# Altium footprint library 470uf.PcbLib: 1 footprints
Each footprint in its own frame and in the unit in brackets; x right, y up, seen from the top. Pads: shape width x height; smd on the part's side, far side on the other; paste and mask are expansions set on the pad; w line width, h text height; cw(c..) or ccw(c..) is an arc to the next point about the centre after c.
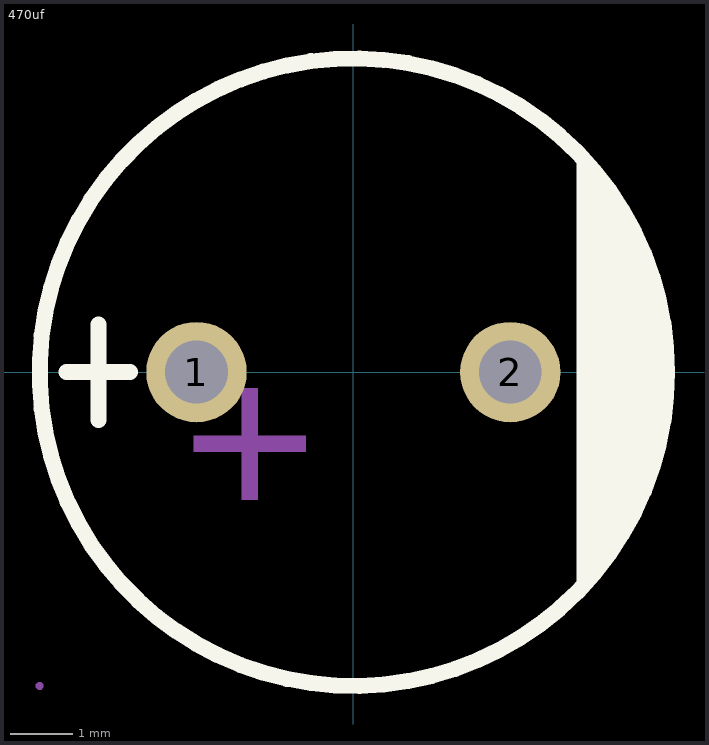
[diagram p0: the footprint, top view; thin cyan lines are the x and y axes]

## 470uf [mm]
pads (2):
  round 1.6 hole 1: 1(-2.5,0) 2(2.5,0)
Top Overlay:
  circle w0.254: c0,0 r5
  region: 3.556,3.556 3.556,-3.556 4.318,-2.54 4.826,-1.016 5.08,0.508 4.826,1.524
  lines w0.254: -4.572,0 -3.556,0 ; -4.064,-0.762 -4.064,0.762
Mechanical 6:
  region: -1.778,-0.762 -1.778,-2.032 -1.524,-2.032 -1.524,-0.254 -1.778,-0.254
  region: -2.54,-1.016 -0.762,-1.016 -0.762,-1.27 -2.54,-1.27
Mechanical 15:
  region: 2.8,0 2.8,-0.06 2.754,-0.17 2.67,-0.254 2.56,-0.3 2.44,-0.3 2.33,-0.254 2.246,-0.17 2.2,-0.06 2.2,0 2.2,0.06 2.246,0.17 2.33,0.254 2.44,0.3 2.56,0.3 2.67,0.254 2.754,0.17 2.8,0.06 2.8,0
  region: -2.2,0 -2.2,-0.06 -2.246,-0.17 -2.33,-0.254 -2.44,-0.3 -2.56,-0.3 -2.67,-0.254 -2.754,-0.17 -2.8,-0.06 -2.8,0 -2.8,0.06 -2.754,0.17 -2.67,0.254 -2.56,0.3 -2.44,0.3 -2.33,0.254 -2.246,0.17 -2.2,0.06 -2.2,0
  region: -4.94,-5 -4.94,-5.025 -4.975,-5.06 -5.025,-5.06 -5.06,-5.025 -5.06,-5 -5.06,-4.975 -5.025,-4.94 -4.975,-4.94 -4.94,-4.975 -4.94,-5
  lines w0.051: -5,0 ccw(c0,0) 5,0 ccw(c0,0) -5,0